# EAGLE library part HR911105A (library HR911105A)
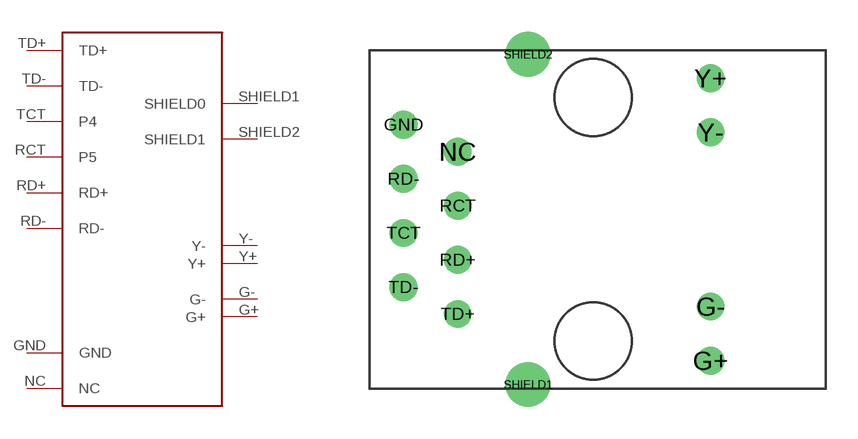
[diagram p0: symbol with the pads of RJ45; footprint RJ45]

Designator prefix -

## HR911105A  [RJ45]
G+  G+
G-  G-
GND  GND
NC  NC
RCT  P5
RD+  RD+
RD-  RD-
SHIELD1  SHIELD0
SHIELD2  SHIELD1
TCT  P4
TD+  TD+
TD-  TD-
Y+  Y+
Y-  Y-

## Footprint RJ45 (pad centres in mm)
drill 0.8: G+ 5.84,-6.305; G- 5.84,-3.765; GND -8.57,4.76; NC -6.03,3.5; RCT -6.03,0.96; RD+ -6.03,-1.58; RD- -8.57,2.22; TCT -8.57,-0.32; TD+ -6.03,-4.12; TD- -8.57,-2.86; Y+ 5.84,6.945; Y- 5.84,4.405
drill 1.4: SHIELD1 -2.73,-7.425; SHIELD2 -2.73,8.065